# Altium footprint library MY_LED.PCBLIB: 3 footprints
Each footprint in its own frame and in the unit in brackets; x right, y up, seen from the top. Pads: shape width x height; smd on the part's side, far side on the other; paste and mask are expansions set on the pad; w line width, h text height; cw(c..) or ccw(c..) is an arc to the next point about the centre after c.
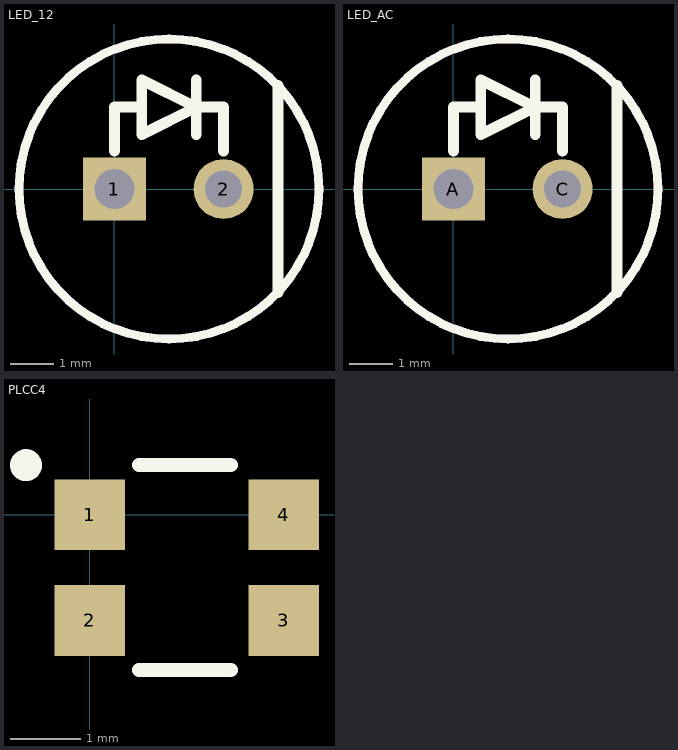
[diagram p0: the footprints below, top view; thin cyan lines are the x and y axes]

## LED_12 [mil]
pads (2):
  rect 58x58 hole 37: 1(0,0)
  round 55 hole 34: 2(100,0)
Top Overlay:
  lines w8: -87.5,0 cw(c50,0) 50,137.5 cw(c50,0) 187.5,0 cw(c50,0) 50,-137.5 cw(c50,0) -87.5,0
  lines w10: 0,35 0,75 25,75 ; 75,50 75,100 ; 100,35 100,75 75,75 ; 150,-95 150,95 ; 75,75 25,50 25,100 75,75
Mechanical 1:
  lines w8: -87.5,0 cw(c50,0) 50,137.5 cw(c50,0) 187.5,0 cw(c50,0) 50,-137.5 cw(c50,0) -87.5,0

## LED_AC [mil]
pads (2):
  rect 58x58 hole 37: A(0,0)
  round 55 hole 34: C(100,0)
Top Overlay:
  lines w8: -87.5,0 ccw(c50,0) 50,-137.5 ccw(c50,0) 187.5,0 ccw(c50,0) 50,137.5 ccw(c50,0) -87.5,0
  lines w10: 0,35 0,75 25,75 ; 75,50 75,100 ; 100,35 100,75 75,75 ; 150,-95 150,95 ; 75,75 25,100 25,50 75,75
Mechanical 1:
  lines w8: -87.5,0 ccw(c50,0) 50,-137.5 ccw(c50,0) 187.5,0 ccw(c50,0) 50,137.5 ccw(c50,0) -87.5,0

## PLCC4 [mm] "RGB - Cree CLV1A-FKB"
height 2.1
pads (4):
  rect 1x1 smd: 1(0,0) 2(0,-1.5) 3(2.75,-1.5) 4(2.75,0)
Top Overlay:
  circle w0.254: c-0.9,0.7 r0.1
  lines w0.2: 0.7,-2.2 2,-2.2 ; 0.7,0.7 2,0.7